# Altium integrated library Ferrite_Bead.IntLib: 160 symbols (part 2 of 2)
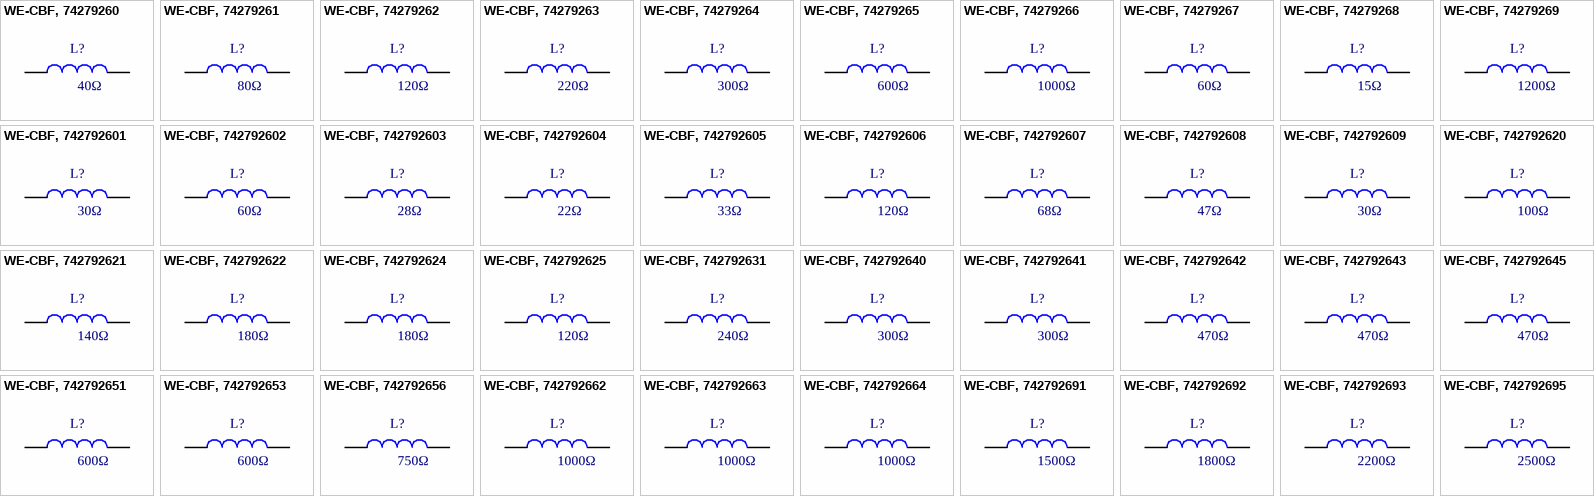
[diagram p8: symbols WE-CBF, 74279260 to WE-CBF, 742792695]

## WE-CBF, 742792621
designator L?, comment 140Ω
WE-CBF SMD EMI Suppression Ferrite Bead, 0603, 140Ω; PartNumber: 742792621; Type: High Speed; PublishedDate: Aug 2016; Publisher: Wurth Elektronik; ComponentLink1Description: Manufacturer; ComponentLink1URL: http://www.we-online.de; ComponentLink2Description: Datasheet; ComponentLink2URL: http://katalog.we-online.de/pbs/datasheet/742792621.pdf; Value: 140Ω; Size: 0603
footprint WE-CBF_0603_High Speed
pins: 1, 2

## WE-CBF, 742792622
designator L?, comment 180Ω
WE-CBF SMD EMI Suppression Ferrite Bead, 0603, 180Ω; PartNumber: 742792622; Type: Wide Band; PublishedDate: Aug 2016; Publisher: Wurth Elektronik; ComponentLink1Description: Manufacturer; ComponentLink1URL: http://www.we-online.de; ComponentLink2Description: Datasheet; ComponentLink2URL: http://katalog.we-online.de/pbs/datasheet/742792622.pdf; Value: 180Ω; Size: 0603
footprint WE-CBF_0603_Wide Band
pins: 1, 2

## WE-CBF, 742792624
designator L?, comment 180Ω
WE-CBF SMD EMI Suppression Ferrite Bead, 0603, 180Ω; PartNumber: 742792624; Type: High Current; PublishedDate: Aug 2016; Publisher: Wurth Elektronik; ComponentLink1Description: Manufacturer; ComponentLink1URL: http://www.we-online.de; ComponentLink2Description: Datasheet; ComponentLink2URL: http://katalog.we-online.de/pbs/datasheet/742792624.pdf; Value: 180Ω; Size: 0603
footprint WE-CBF_0603_High Current
pins: 1, 2

## WE-CBF, 742792625
designator L?, comment 120Ω
WE-CBF SMD EMI Suppression Ferrite Bead, 0603, 120Ω; PartNumber: 742792625; Type: High Current; PublishedDate: Aug 2016; Publisher: Wurth Elektronik; ComponentLink1Description: Manufacturer; ComponentLink1URL: http://www.we-online.de; ComponentLink2Description: Datasheet; ComponentLink2URL: http://katalog.we-online.de/pbs/datasheet/742792625.pdf; Value: 120Ω; Size: 0603
footprint WE-CBF_0603_High Current
pins: 1, 2

## WE-CBF, 742792631
designator L?, comment 240Ω
WE-CBF SMD EMI Suppression Ferrite Bead, 0603, 240Ω; PartNumber: 742792631; Type: Wide Band; PublishedDate: Aug 2016; Publisher: Wurth Elektronik; ComponentLink1Description: Manufacturer; ComponentLink1URL: http://www.we-online.de; ComponentLink2Description: Datasheet; ComponentLink2URL: http://katalog.we-online.de/pbs/datasheet/742792631.pdf; Value: 240Ω; Size: 0603
footprint WE-CBF_0603_Wide Band
pins: 1, 2

## WE-CBF, 742792640
designator L?, comment 300Ω
WE-CBF SMD EMI Suppression Ferrite Bead, 0603, 300Ω; PartNumber: 742792640; Type: High Speed; PublishedDate: Aug 2016; Publisher: Wurth Elektronik; ComponentLink1Description: Manufacturer; ComponentLink1URL: http://www.we-online.de; ComponentLink2Description: Datasheet; ComponentLink2URL: http://katalog.we-online.de/pbs/datasheet/742792640.pdf; Value: 300Ω; Size: 0603
footprint WE-CBF_0603_High Speed
pins: 1, 2

## WE-CBF, 742792641
designator L?, comment 300Ω
WE-CBF SMD EMI Suppression Ferrite Bead, 0603, 300Ω; PartNumber: 742792641; Type: High Current; PublishedDate: Aug 2016; Publisher: Wurth Elektronik; ComponentLink1Description: Manufacturer; ComponentLink1URL: http://www.we-online.de; ComponentLink2Description: Datasheet; ComponentLink2URL: http://katalog.we-online.de/pbs/datasheet/742792641.pdf; Value: 300Ω; Size: 0603
footprint WE-CBF_0603_High Current
pins: 1, 2

## WE-CBF, 742792642
designator L?, comment 470Ω
WE-CBF SMD EMI Suppression Ferrite Bead, 0603, 470Ω; PartNumber: 742792642; Type: Wide Band; PublishedDate: Aug 2016; Publisher: Wurth Elektronik; ComponentLink1Description: Manufacturer; ComponentLink1URL: http://www.we-online.de; ComponentLink2Description: Datasheet; ComponentLink2URL: http://katalog.we-online.de/pbs/datasheet/742792642.pdf; Value: 470Ω; Size: 0603
footprint WE-CBF_0603_Wide Band
pins: 1, 2

## WE-CBF, 742792643
designator L?, comment 470Ω
WE-CBF SMD EMI Suppression Ferrite Bead, 0603, 470Ω; PartNumber: 742792643; Type: High Speed; PublishedDate: Aug 2016; Publisher: Wurth Elektronik; ComponentLink1Description: Manufacturer; ComponentLink1URL: http://www.we-online.de; ComponentLink2Description: Datasheet; ComponentLink2URL: http://katalog.we-online.de/pbs/datasheet/742792643.pdf; Value: 470Ω; Size: 0603
footprint WE-CBF_0603_High Speed
pins: 1, 2

## WE-CBF, 742792645
designator L?, comment 470Ω
WE-CBF SMD EMI Suppression Ferrite Bead, 0603, 470Ω; PartNumber: 742792645; Type: High Current; PublishedDate: Aug 2016; Publisher: Wurth Elektronik; ComponentLink1Description: Manufacturer; ComponentLink1URL: http://www.we-online.de; ComponentLink2Description: Datasheet; ComponentLink2URL: http://katalog.we-online.de/pbs/datasheet/742792645.pdf; Value: 470Ω; Size: 0603
footprint WE-CBF_0603_High Current
pins: 1, 2

## WE-CBF, 742792651
designator L?, comment 600Ω
WE-CBF SMD EMI Suppression Ferrite Bead, 0603, 600Ω; PartNumber: 742792651; Type: High Current; PublishedDate: Aug 2016; Publisher: Wurth Elektronik; ComponentLink1Description: Manufacturer; ComponentLink1URL: http://www.we-online.de; ComponentLink2Description: Datasheet; ComponentLink2URL: http://katalog.we-online.de/pbs/datasheet/742792651.pdf; Value: 600Ω; Size: 0603
footprint WE-CBF_0603_High Current
pins: 1, 2

## WE-CBF, 742792653
designator L?, comment 600Ω
WE-CBF SMD EMI Suppression Ferrite Bead, 0603, 600Ω; PartNumber: 742792653; Type: High Speed; PublishedDate: Aug 2016; Publisher: Wurth Elektronik; ComponentLink1Description: Manufacturer; ComponentLink1URL: http://www.we-online.de; ComponentLink2Description: Datasheet; ComponentLink2URL: http://katalog.we-online.de/pbs/datasheet/742792653.pdf; Value: 600Ω; Size: 0603
footprint WE-CBF_0603_High Speed
pins: 1, 2

## WE-CBF, 742792656
designator L?, comment 750Ω
WE-CBF SMD EMI Suppression Ferrite Bead, 0603, 750Ω; PartNumber: 742792656; Type: Wide Band; PublishedDate: Aug 2016; Publisher: Wurth Elektronik; ComponentLink1Description: Manufacturer; ComponentLink1URL: http://www.we-online.de; ComponentLink2Description: Datasheet; ComponentLink2URL: http://katalog.we-online.de/pbs/datasheet/742792656.pdf; Value: 750Ω; Size: 0603
footprint WE-CBF_0603_Wide Band
pins: 1, 2

## WE-CBF, 742792662
designator L?, comment 1000Ω
WE-CBF SMD EMI Suppression Ferrite Bead, 0603, 1000Ω; PartNumber: 742792662; Type: Wide Band; PublishedDate: Aug 2016; Publisher: Wurth Elektronik; ComponentLink1Description: Manufacturer; ComponentLink1URL: http://www.we-online.de; ComponentLink2Description: Datasheet; ComponentLink2URL: http://katalog.we-online.de/pbs/datasheet/742792662.pdf; Value: 1000Ω; Size: 0603
footprint WE-CBF_0603_Wide Band
pins: 1, 2

## WE-CBF, 742792663
designator L?, comment 1000Ω
WE-CBF SMD EMI Suppression Ferrite Bead, 0603, 1000Ω; PartNumber: 742792663; Type: Wide Band; PublishedDate: Aug 2016; Publisher: Wurth Elektronik; ComponentLink1Description: Manufacturer; ComponentLink1URL: http://www.we-online.de; ComponentLink2Description: Datasheet; ComponentLink2URL: http://katalog.we-online.de/pbs/datasheet/742792663.pdf; Value: 1000Ω; Size: 0603
footprint WE-CBF_0603_Wide Band
pins: 1, 2

## WE-CBF, 742792664
designator L?, comment 1000Ω
WE-CBF SMD EMI Suppression Ferrite Bead, 0603, 1000Ω; PartNumber: 742792664; Type: High Speed; PublishedDate: Aug 2016; Publisher: Wurth Elektronik; ComponentLink1Description: Manufacturer; ComponentLink1URL: http://www.we-online.de; ComponentLink2Description: Datasheet; ComponentLink2URL: http://katalog.we-online.de/pbs/datasheet/742792664.pdf; Value: 1000Ω; Size: 0603
footprint WE-CBF_0603_High Speed
pins: 1, 2

## WE-CBF, 742792691
designator L?, comment 1500Ω
WE-CBF SMD EMI Suppression Ferrite Bead, 0603, 1500Ω; PartNumber: 742792691; Type: Wide Band; PublishedDate: Aug 2016; Publisher: Wurth Elektronik; ComponentLink1Description: Manufacturer; ComponentLink1URL: http://www.we-online.de; ComponentLink2Description: Datasheet; ComponentLink2URL: http://katalog.we-online.de/pbs/datasheet/742792691.pdf; Value: 1500Ω; Size: 0603
footprint WE-CBF_0603_Wide Band
pins: 1, 2

## WE-CBF, 742792692
designator L?, comment 1800Ω
WE-CBF SMD EMI Suppression Ferrite Bead, 0603, 1800Ω; PartNumber: 742792692; Type: Wide Band; PublishedDate: Aug 2016; Publisher: Wurth Elektronik; ComponentLink1Description: Manufacturer; ComponentLink1URL: http://www.we-online.de; ComponentLink2Description: Datasheet; ComponentLink2URL: http://katalog.we-online.de/pbs/datasheet/742792692.pdf; Value: 1800Ω; Size: 0603
footprint WE-CBF_0603_Wide Band
pins: 1, 2

## WE-CBF, 742792693
designator L?, comment 2200Ω
WE-CBF SMD EMI Suppression Ferrite Bead, 0603, 2200Ω; PartNumber: 742792693; Type: Wide Band; PublishedDate: Aug 2016; Publisher: Wurth Elektronik; ComponentLink1Description: Manufacturer; ComponentLink1URL: http://www.we-online.de; ComponentLink2Description: Datasheet; ComponentLink2URL: http://katalog.we-online.de/pbs/datasheet/742792693.pdf; Value: 2200Ω; Size: 0603
footprint WE-CBF_0603_Wide Band
pins: 1, 2

## WE-CBF, 742792695
designator L?, comment 2500Ω
WE-CBF SMD EMI Suppression Ferrite Bead, 0603, 2500Ω; PartNumber: 742792695; Type: Wide Band; PublishedDate: Aug 2016; Publisher: Wurth Elektronik; ComponentLink1Description: Manufacturer; ComponentLink1URL: http://www.we-online.de; ComponentLink2Description: Datasheet; ComponentLink2URL: http://katalog.we-online.de/pbs/datasheet/742792695.pdf; Value: 2500Ω; Size: 0603
footprint WE-CBF_0603_Wide Band
pins: 1, 2


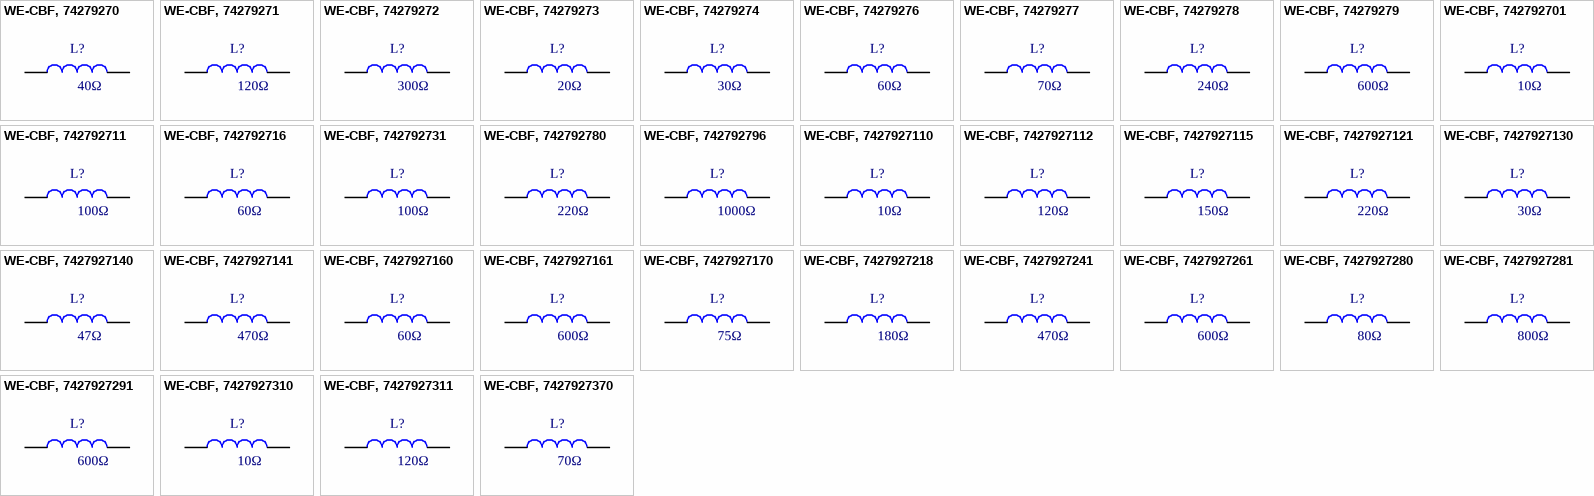
[diagram p7: symbols WE-CBF, 74279270 to WE-CBF, 7427927370]

## WE-CBF, 74279270
designator L?, comment 40Ω
WE-CBF SMD EMI Suppression Ferrite Bead, 0402, 40Ω; PartNumber: 74279270; Type: Wide Band; PublishedDate: Aug 2016; Publisher: Wurth Elektronik; ComponentLink1Description: Manufacturer; ComponentLink1URL: http://www.we-online.de; ComponentLink2Description: Datasheet; ComponentLink2URL: http://katalog.we-online.de/pbs/datasheet/74279270.pdf; Value: 40Ω; Size: 0402
footprint WE-CBF_0402_Wide Band
pins: 1, 2

## WE-CBF, 74279271
designator L?, comment 120Ω
WE-CBF SMD EMI Suppression Ferrite Bead, 0402, 120Ω; PartNumber: 74279271; Type: Wide Band; PublishedDate: Aug 2016; Publisher: Wurth Elektronik; ComponentLink1Description: Manufacturer; ComponentLink1URL: http://www.we-online.de; ComponentLink2Description: Datasheet; ComponentLink2URL: http://katalog.we-online.de/pbs/datasheet/74279271.pdf; Value: 120Ω; Size: 0402
footprint WE-CBF_0402_Wide Band
pins: 1, 2

## WE-CBF, 74279272
designator L?, comment 300Ω
WE-CBF SMD EMI Suppression Ferrite Bead, 0402, 300Ω; PartNumber: 74279272; Type: Wide Band; PublishedDate: Aug 2016; Publisher: Wurth Elektronik; ComponentLink1Description: Manufacturer; ComponentLink1URL: http://www.we-online.de; ComponentLink2Description: Datasheet; ComponentLink2URL: http://katalog.we-online.de/pbs/datasheet/74279272.pdf; Value: 300Ω; Size: 0402
footprint WE-CBF_0402_Wide Band
pins: 1, 2

## WE-CBF, 74279273
designator L?, comment 20Ω
WE-CBF SMD EMI Suppression Ferrite Bead, 0402, 20Ω; PartNumber: 74279273; Type: High Speed; PublishedDate: Aug 2016; Publisher: Wurth Elektronik; ComponentLink1Description: Manufacturer; ComponentLink1URL: http://www.we-online.de; ComponentLink2Description: Datasheet; ComponentLink2URL: http://katalog.we-online.de/pbs/datasheet/74279273.pdf; Value: 20Ω; Size: 0402
footprint WE-CBF_0402_High Speed
pins: 1, 2

## WE-CBF, 74279274
designator L?, comment 30Ω
WE-CBF SMD EMI Suppression Ferrite Bead, 0402, 30Ω; PartNumber: 74279274; Type: Wide Band; PublishedDate: Aug 2016; Publisher: Wurth Elektronik; ComponentLink1Description: Manufacturer; ComponentLink1URL: http://www.we-online.de; ComponentLink2Description: Datasheet; ComponentLink2URL: http://katalog.we-online.de/pbs/datasheet/74279274.pdf; Value: 30Ω; Size: 0402
footprint WE-CBF_0402_Wide Band
pins: 1, 2

## WE-CBF, 74279276
designator L?, comment 60Ω
WE-CBF SMD EMI Suppression Ferrite Bead, 0402, 60Ω; PartNumber: 74279276; Type: Wide Band; PublishedDate: Aug 2016; Publisher: Wurth Elektronik; ComponentLink1Description: Manufacturer; ComponentLink1URL: http://www.we-online.de; ComponentLink2Description: Datasheet; ComponentLink2URL: http://katalog.we-online.de/pbs/datasheet/74279276.pdf; Value: 60Ω; Size: 0402
footprint WE-CBF_0402_Wide Band
pins: 1, 2

## WE-CBF, 74279277
designator L?, comment 70Ω
WE-CBF SMD EMI Suppression Ferrite Bead, 0402, 70Ω; PartNumber: 74279277; Type: Wide Band; PublishedDate: Aug 2016; Publisher: Wurth Elektronik; ComponentLink1Description: Manufacturer; ComponentLink1URL: http://www.we-online.de; ComponentLink2Description: Datasheet; ComponentLink2URL: http://katalog.we-online.de/pbs/datasheet/74279277.pdf; Value: 70Ω; Size: 0402
footprint WE-CBF_0402_Wide Band
pins: 1, 2

## WE-CBF, 74279278
designator L?, comment 240Ω
WE-CBF SMD EMI Suppression Ferrite Bead, 0402, 240Ω; PartNumber: 74279278; Type: Wide Band; PublishedDate: Aug 2016; Publisher: Wurth Elektronik; ComponentLink1Description: Manufacturer; ComponentLink1URL: http://www.we-online.de; ComponentLink2Description: Datasheet; ComponentLink2URL: http://katalog.we-online.de/pbs/datasheet/74279278.pdf; Value: 240Ω; Size: 0402
footprint WE-CBF_0402_Wide Band
pins: 1, 2

## WE-CBF, 74279279
designator L?, comment 600Ω
WE-CBF SMD EMI Suppression Ferrite Bead, 0402, 600Ω; PartNumber: 74279279; Type: Wide Band; PublishedDate: Aug 2016; Publisher: Wurth Elektronik; ComponentLink1Description: Manufacturer; ComponentLink1URL: http://www.we-online.de; ComponentLink2Description: Datasheet; ComponentLink2URL: http://katalog.we-online.de/pbs/datasheet/74279279.pdf; Value: 600Ω; Size: 0402
footprint WE-CBF_0402_Wide Band
pins: 1, 2

## WE-CBF, 742792701
designator L?, comment 10Ω
WE-CBF SMD EMI Suppression Ferrite Bead, 0402, 10Ω; PartNumber: 742792701; Type: Wide Band; PublishedDate: Aug 2016; Publisher: Wurth Elektronik; ComponentLink1Description: Manufacturer; ComponentLink1URL: http://www.we-online.de; ComponentLink2Description: Datasheet; ComponentLink2URL: http://katalog.we-online.de/pbs/datasheet/742792701.pdf; Value: 10Ω; Size: 0402
footprint WE-CBF_0402_Wide Band
pins: 1, 2

## WE-CBF, 742792711
designator L?, comment 100Ω
WE-CBF SMD EMI Suppression Ferrite Bead, 0402, 100Ω; PartNumber: 742792711; Type: High Speed; PublishedDate: Aug 2016; Publisher: Wurth Elektronik; ComponentLink1Description: Manufacturer; ComponentLink1URL: http://www.we-online.de; ComponentLink2Description: Datasheet; ComponentLink2URL: http://katalog.we-online.de/pbs/datasheet/742792711.pdf; Value: 100Ω; Size: 0402
footprint WE-CBF_0402_High Speed
pins: 1, 2

## WE-CBF, 742792716
designator L?, comment 60Ω
WE-CBF SMD EMI Suppression Ferrite Bead, 0402, 60Ω; PartNumber: 742792716; Type: High Speed; PublishedDate: Aug 2016; Publisher: Wurth Elektronik; ComponentLink1Description: Manufacturer; ComponentLink1URL: http://www.we-online.de; ComponentLink2Description: Datasheet; ComponentLink2URL: http://katalog.we-online.de/pbs/datasheet/742792716.pdf; Value: 60Ω; Size: 0402
footprint WE-CBF_0402_High Speed
pins: 1, 2

## WE-CBF, 742792731
designator L?, comment 100Ω
WE-CBF SMD EMI Suppression Ferrite Bead, 0402, 100Ω; PartNumber: 742792731; Type: High Current; PublishedDate: Aug 2016; Publisher: Wurth Elektronik; ComponentLink1Description: Manufacturer; ComponentLink1URL: http://www.we-online.de; ComponentLink2Description: Datasheet; ComponentLink2URL: http://katalog.we-online.de/pbs/datasheet/742792731.pdf; Value: 100Ω; Size: 0402
footprint WE-CBF_0402_High Current
pins: 1, 2

## WE-CBF, 742792780
designator L?, comment 220Ω
WE-CBF SMD EMI Suppression Ferrite Bead, 0402, 220Ω; PartNumber: 742792780; Type: Wide Band; PublishedDate: Aug 2016; Publisher: Wurth Elektronik; ComponentLink1Description: Manufacturer; ComponentLink1URL: http://www.we-online.de; ComponentLink2Description: Datasheet; ComponentLink2URL: http://katalog.we-online.de/pbs/datasheet/742792780.pdf; Value: 220Ω; Size: 0402
footprint WE-CBF_0402_Wide Band
pins: 1, 2

## WE-CBF, 742792796
designator L?, comment 1000Ω
WE-CBF SMD EMI Suppression Ferrite Bead, 0402, 1000Ω; PartNumber: 742792796; Type: Wide Band; PublishedDate: Aug 2016; Publisher: Wurth Elektronik; ComponentLink1Description: Manufacturer; ComponentLink1URL: http://www.we-online.de; ComponentLink2Description: Datasheet; ComponentLink2URL: http://katalog.we-online.de/pbs/datasheet/742792796.pdf; Value: 1000Ω; Size: 0402
footprint WE-CBF_0402_Wide Band
pins: 1, 2

## WE-CBF, 7427927110
designator L?, comment 10Ω
WE-CBF SMD EMI Suppression Ferrite Bead, 0402, 10Ω; PartNumber: 7427927110; Type: High Speed; PublishedDate: Aug 2016; Publisher: Wurth Elektronik; ComponentLink1Description: Manufacturer; ComponentLink1URL: http://www.we-online.de; ComponentLink2Description: Datasheet; ComponentLink2URL: http://katalog.we-online.de/pbs/datasheet/7427927110.pdf; Value: 10Ω; Size: 0402
footprint WE-CBF_0402_High Speed
pins: 1, 2

## WE-CBF, 7427927112
designator L?, comment 120Ω
WE-CBF SMD EMI Suppression Ferrite Bead, 0402, 120Ω; PartNumber: 7427927112; Type: High Speed; PublishedDate: Aug 2016; Publisher: Wurth Elektronik; ComponentLink1Description: Manufacturer; ComponentLink1URL: http://www.we-online.de; ComponentLink2Description: Datasheet; ComponentLink2URL: http://katalog.we-online.de/pbs/datasheet/7427927112.pdf; Value: 120Ω; Size: 0402
footprint WE-CBF_0402_High Speed
pins: 1, 2

## WE-CBF, 7427927115
designator L?, comment 150Ω
WE-CBF SMD EMI Suppression Ferrite Bead, 0402, 150Ω; PartNumber: 7427927115; Type: High Speed; PublishedDate: Aug 2016; Publisher: Wurth Elektronik; ComponentLink1Description: Manufacturer; ComponentLink1URL: http://www.we-online.de; ComponentLink2Description: Datasheet; ComponentLink2URL: http://katalog.we-online.de/pbs/datasheet/7427927115.pdf; Value: 150Ω; Size: 0402
footprint WE-CBF_0402_High Speed
pins: 1, 2

## WE-CBF, 7427927121
designator L?, comment 220Ω
WE-CBF SMD EMI Suppression Ferrite Bead, 0402, 220Ω; PartNumber: 7427927121; Type: High Speed; PublishedDate: Aug 2016; Publisher: Wurth Elektronik; ComponentLink1Description: Manufacturer; ComponentLink1URL: http://www.we-online.de; ComponentLink2Description: Datasheet; ComponentLink2URL: http://katalog.we-online.de/pbs/datasheet/7427927121.pdf; Value: 220Ω; Size: 0402
footprint WE-CBF_0402_High Speed
pins: 1, 2

## WE-CBF, 7427927130
designator L?, comment 30Ω
WE-CBF SMD EMI Suppression Ferrite Bead, 0402, 30Ω; PartNumber: 7427927130; Type: High Speed; PublishedDate: Aug 2016; Publisher: Wurth Elektronik; ComponentLink1Description: Manufacturer; ComponentLink1URL: http://www.we-online.de; ComponentLink2Description: Datasheet; ComponentLink2URL: http://katalog.we-online.de/pbs/datasheet/7427927130.pdf; Value: 30Ω; Size: 0402
footprint WE-CBF_0402_High Speed
pins: 1, 2

## WE-CBF, 7427927140
designator L?, comment 47Ω
WE-CBF SMD EMI Suppression Ferrite Bead, 0402, 47Ω; PartNumber: 7427927140; Type: High Speed; PublishedDate: Aug 2016; Publisher: Wurth Elektronik; ComponentLink1Description: Manufacturer; ComponentLink1URL: http://www.we-online.de; ComponentLink2Description: Datasheet; ComponentLink2URL: http://katalog.we-online.de/pbs/datasheet/7427927140.pdf; Value: 47Ω; Size: 0402
footprint WE-CBF_0402_High Speed
pins: 1, 2

## WE-CBF, 7427927141
designator L?, comment 470Ω
WE-CBF SMD EMI Suppression Ferrite Bead, 0402, 470Ω; PartNumber: 7427927141; Type: High Speed; PublishedDate: Aug 2016; Publisher: Wurth Elektronik; ComponentLink1Description: Manufacturer; ComponentLink1URL: http://www.we-online.de; ComponentLink2Description: Datasheet; ComponentLink2URL: http://katalog.we-online.de/pbs/datasheet/7427927141.pdf; Value: 470Ω; Size: 0402
footprint WE-CBF_0402_High Speed
pins: 1, 2

## WE-CBF, 7427927160
designator L?, comment 60Ω
WE-CBF SMD EMI Suppression Ferrite Bead, 0402, 60Ω; PartNumber: 7427927160; Type: High Speed; PublishedDate: Aug 2016; Publisher: Wurth Elektronik; ComponentLink1Description: Manufacturer; ComponentLink1URL: http://www.we-online.de; ComponentLink2Description: Datasheet; ComponentLink2URL: http://katalog.we-online.de/pbs/datasheet/7427927160.pdf; Value: 60Ω; Size: 0402
footprint WE-CBF_0402_High Speed
pins: 1, 2

## WE-CBF, 7427927161
designator L?, comment 600Ω
WE-CBF SMD EMI Suppression Ferrite Bead, 0402, 600Ω; PartNumber: 7427927161; Type: High Speed; PublishedDate: Aug 2016; Publisher: Wurth Elektronik; ComponentLink1Description: Manufacturer; ComponentLink1URL: http://www.we-online.de; ComponentLink2Description: Datasheet; ComponentLink2URL: http://katalog.we-online.de/pbs/datasheet/7427927161.pdf; Value: 600Ω; Size: 0402
footprint WE-CBF_0402_High Speed
pins: 1, 2

## WE-CBF, 7427927170
designator L?, comment 75Ω
WE-CBF SMD EMI Suppression Ferrite Bead, 0402, 75Ω; PartNumber: 7427927170; Type: High Speed; PublishedDate: Aug 2016; Publisher: Wurth Elektronik; ComponentLink1Description: Manufacturer; ComponentLink1URL: http://www.we-online.de; ComponentLink2Description: Datasheet; ComponentLink2URL: http://katalog.we-online.de/pbs/datasheet/7427927170.pdf; Value: 75Ω; Size: 0402
footprint WE-CBF_0402_High Speed
pins: 1, 2

## WE-CBF, 7427927218
designator L?, comment 180Ω
WE-CBF SMD EMI Suppression Ferrite Bead, 0402, 180Ω; PartNumber: 7427927218; Type: Wide Band; PublishedDate: Aug 2016; Publisher: Wurth Elektronik; ComponentLink1Description: Manufacturer; ComponentLink1URL: http://www.we-online.de; ComponentLink2Description: Datasheet; ComponentLink2URL: http://katalog.we-online.de/pbs/datasheet/7427927218.pdf; Value: 180Ω; Size: 0402
footprint WE-CBF_0402_Wide Band
pins: 1, 2

## WE-CBF, 7427927241
designator L?, comment 470Ω
WE-CBF SMD EMI Suppression Ferrite Bead, 0402, 470Ω; PartNumber: 7427927241; Type: Wide Band; PublishedDate: Aug 2016; Publisher: Wurth Elektronik; ComponentLink1Description: Manufacturer; ComponentLink1URL: http://www.we-online.de; ComponentLink2Description: Datasheet; ComponentLink2URL: http://katalog.we-online.de/pbs/datasheet/7427927241.pdf; Value: 470Ω; Size: 0402
footprint WE-CBF_0402_Wide Band
pins: 1, 2

## WE-CBF, 7427927261
designator L?, comment 600Ω
WE-CBF SMD EMI Suppression Ferrite Bead, 0402, 600Ω; PartNumber: 7427927261; Type: Wide Band; PublishedDate: Aug 2016; Publisher: Wurth Elektronik; ComponentLink1Description: Manufacturer; ComponentLink1URL: http://www.we-online.de; ComponentLink2Description: Datasheet; ComponentLink2URL: http://katalog.we-online.de/pbs/datasheet/7427927261.pdf; Value: 600Ω; Size: 0402
footprint WE-CBF_0402_Wide Band
pins: 1, 2

## WE-CBF, 7427927280
designator L?, comment 80Ω
WE-CBF SMD EMI Suppression Ferrite Bead, 0402, 80Ω; PartNumber: 7427927280; Type: Wide Band; PublishedDate: Aug 2016; Publisher: Wurth Elektronik; ComponentLink1Description: Manufacturer; ComponentLink1URL: http://www.we-online.de; ComponentLink2Description: Datasheet; ComponentLink2URL: http://katalog.we-online.de/pbs/datasheet/7427927280.pdf; Value: 80Ω; Size: 0402
footprint WE-CBF_0402_Wide Band
pins: 1, 2

## WE-CBF, 7427927281
designator L?, comment 800Ω
WE-CBF SMD EMI Suppression Ferrite Bead, 0402, 800Ω; PartNumber: 7427927281; Type: Wide Band; PublishedDate: Aug 2016; Publisher: Wurth Elektronik; ComponentLink1Description: Manufacturer; ComponentLink1URL: http://www.we-online.de; ComponentLink2Description: Datasheet; ComponentLink2URL: http://katalog.we-online.de/pbs/datasheet/7427927281.pdf; Value: 800Ω; Size: 0402
footprint WE-CBF_0402_Wide Band
pins: 1, 2

## WE-CBF, 7427927291
designator L?, comment 600Ω
WE-CBF SMD EMI Suppression Ferrite Bead, 0402, 600Ω; PartNumber: 7427927291; Type: Wide Band; PublishedDate: Aug 2016; Publisher: Wurth Elektronik; ComponentLink1Description: Manufacturer; ComponentLink1URL: http://www.we-online.de; ComponentLink2Description: Datasheet; ComponentLink2URL: http://katalog.we-online.de/pbs/datasheet/7427927291.pdf; Value: 600Ω; Size: 0402
footprint WE-CBF_0402_Wide Band
pins: 1, 2

## WE-CBF, 7427927310
designator L?, comment 10Ω
WE-CBF SMD EMI Suppression Ferrite Bead, 0402, 10Ω; PartNumber: 7427927310; Type: High Current; PublishedDate: Aug 2016; Publisher: Wurth Elektronik; ComponentLink1Description: Manufacturer; ComponentLink1URL: http://www.we-online.de; ComponentLink2Description: Datasheet; ComponentLink2URL: http://katalog.we-online.de/pbs/datasheet/7427927310.pdf; Value: 10Ω; Size: 0402
footprint WE-CBF_0402_High Current
pins: 1, 2

## WE-CBF, 7427927311
designator L?, comment 120Ω
WE-CBF SMD EMI Suppression Ferrite Bead, 0402, 120Ω; PartNumber: 7427927311; Type: High Current; PublishedDate: Aug 2016; Publisher: Wurth Elektronik; ComponentLink1Description: Manufacturer; ComponentLink1URL: http://www.we-online.de; ComponentLink2Description: Datasheet; ComponentLink2URL: http://katalog.we-online.de/pbs/datasheet/7427927311.pdf; Value: 120Ω; Size: 0402
footprint WE-CBF_0402_High Current
pins: 1, 2

## WE-CBF, 7427927370
designator L?, comment 70Ω
WE-CBF SMD EMI Suppression Ferrite Bead, 0402, 70Ω; PartNumber: 7427927370; Type: High Current; PublishedDate: Aug 2016; Publisher: Wurth Elektronik; ComponentLink1Description: Manufacturer; ComponentLink1URL: http://www.we-online.de; ComponentLink2Description: Datasheet; ComponentLink2URL: http://katalog.we-online.de/pbs/datasheet/7427927370.pdf; Value: 70Ω; Size: 0402
footprint WE-CBF_0402_High Current
pins: 1, 2